# Altium schematic symbol library SCH - CRYSTALS - TAITIEN TZ OPTION-A.SCHLIB: 1 symbol
Pins are listed as number, name and electrical type; pins without a type are passive.

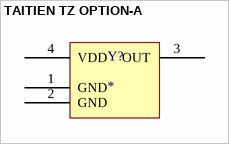
[diagram p0: symbol TAITIEN TZ OPTION-A]

## TAITIEN TZ OPTION-A
designator Y?
SMD TCXO
pins: 1 GND, 2 GND, 3 OUT, 4 VDD